# EAGLE library part 418311170804 (library Wurth_Elektronik_Electromechanic_Switch_rev16b)
WS-PT 2.54 mm piano type compact SMD Dip Switch with flat actuator, 4 Pole
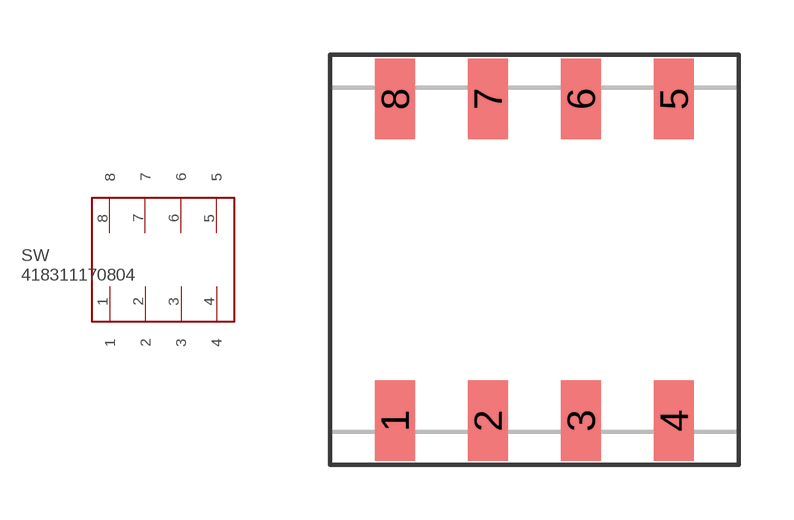
[diagram p100: symbol with the pads of 418311170804; footprint 418311170804]

Designator prefix SW

## 418311170804  [418311170804]
1  1
2  2
3  3
4  4
5  5
6  6
7  7
8  8

## Footprint 418311170804 (pad centres in mm)
WS-PT 2.54 mm piano type compact SMD Dip Switch with flat actuator, 4 Pole
smd 1.1 x 2.2: 1 -3.81,-4.4; 2 -1.27,-4.4; 3 1.27,-4.4; 4 3.81,-4.4; 5 3.81,4.4; 6 1.27,4.4; 7 -1.27,4.4; 8 -3.81,4.4